# Altium schematic symbol library Schlib1.SchLib: 8 symbols
Pins are listed as number, name and electrical type; pins without a type are passive.

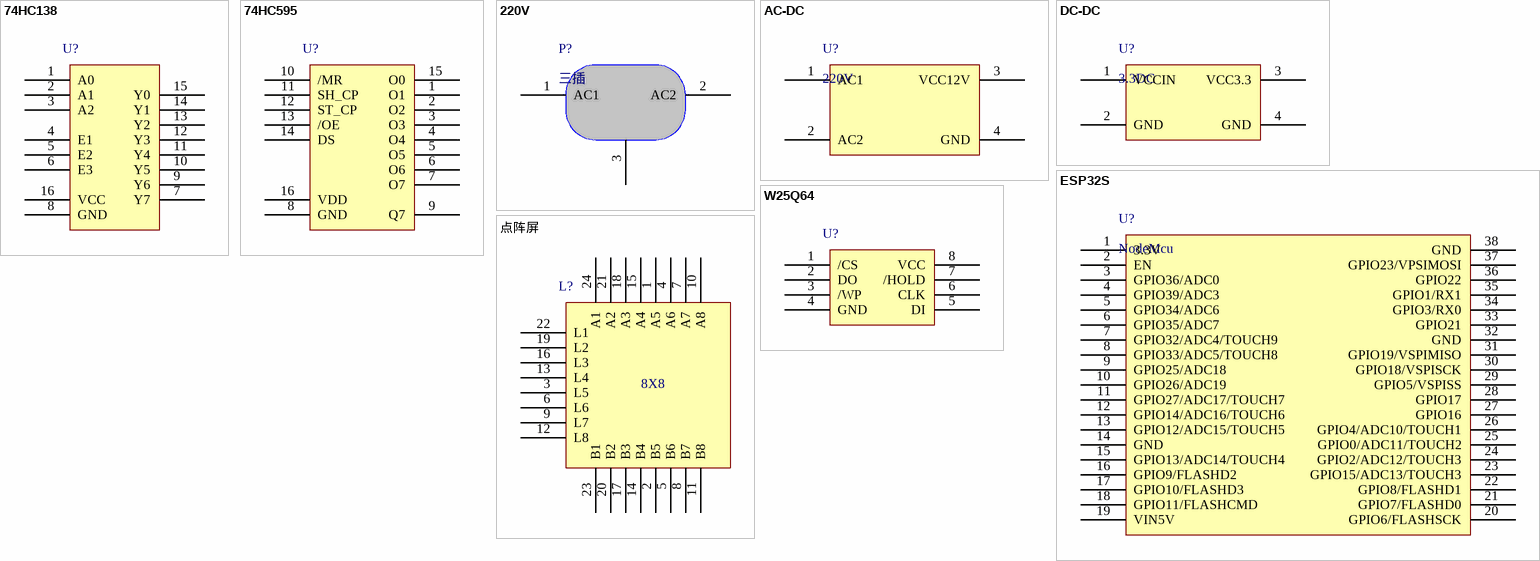
[diagram p0: symbols 74HC138 to 点阵屏]

## 74HC138
designator U?
pins: 1 A0, 2 A1, 3 A2, 4 E1, 5 E2, 6 E3, 7 Y7, 8 GND, 9 Y6, 10 Y5, 11 Y4, 12 Y3, 13 Y2, 14 Y1, 15 Y0, 16 VCC

## 74HC595
designator U?
pins: 1 O1, 2 O2, 3 O3, 4 O4, 5 O5, 6 O6, 7 O7, 8 GND, 9 Q7, 10 /MR, 11 SH_CP, 12 ST_CP, 13 /OE, 14 DS, 15 O0, 16 VDD

## 220V
designator P?, comment 三插
pins: 1 AC1, 2 AC2, 3

## AC-DC
designator U?, comment 220V
pins: 1 AC1, 2 AC2, 3 VCC12V, 4 GND

## DC-DC
designator U?, comment 3.3DC
pins: 1 VCCIN, 2 GND, 3 VCC3.3, 4 GND

## ESP32S
designator U?, comment NodeMcu
pins: 1 3.3V, 2 EN, 3 GPIO36/ADC0, 4 GPIO39/ADC3, 5 GPIO34/ADC6, 6 GPIO35/ADC7, 7 GPIO32/ADC4/TOUCH9, 8 GPIO33/ADC5/TOUCH8, 9 GPIO25/ADC18, 10 GPIO26/ADC19, 11 GPIO27/ADC17/TOUCH7, 12 GPIO14/ADC16/TOUCH6, 13 GPIO12/ADC15/TOUCH5, 14 GND, 15 GPIO13/ADC14/TOUCH4, 16 GPIO9/FLASHD2, 17 GPIO10/FLASHD3, 18 GPIO11/FLASHCMD, 19 VIN5V, 20 GPIO6/FLASHSCK, 21 GPIO7/FLASHD0, 22 GPIO8/FLASHD1, 23 GPIO15/ADC13/TOUCH3, 24 GPIO2/ADC12/TOUCH3, 25 GPIO0/ADC11/TOUCH2, 26 GPIO4/ADC10/TOUCH1, 27 GPIO16, 28 GPIO17, 29 GPIO5/VSPISS, 30 GPIO18/VSPISCK, 31 GPIO19/VSPIMISO, 32 GND, 33 GPIO21, 34 GPIO3/RX0, 35 GPIO1/RX1, 36 GPIO22, 37 GPIO23/VPSIMOSI, 38 GND

## W25Q64
designator U?
pins: 1 /CS, 2 DO, 3 /WP, 4 GND, 5 DI, 6 CLK, 7 /HOLD, 8 VCC

## 点阵屏
designator L?
pins: 1 A5, 2 B5, 3 L5, 4 A6, 5 B6, 6 L6, 7 A7, 8 B7, 9 L7, 10 A8, 11 B8, 12 L8, 13 L4, 14 B4, 15 A4, 16 L3, 17 B3, 18 A3, 19 L2, 20 B2, 21 A2, 22 L1, 23 B1, 24 A1
text: 8X8